# EAGLE library part 251715-SOCK (library crasbe)
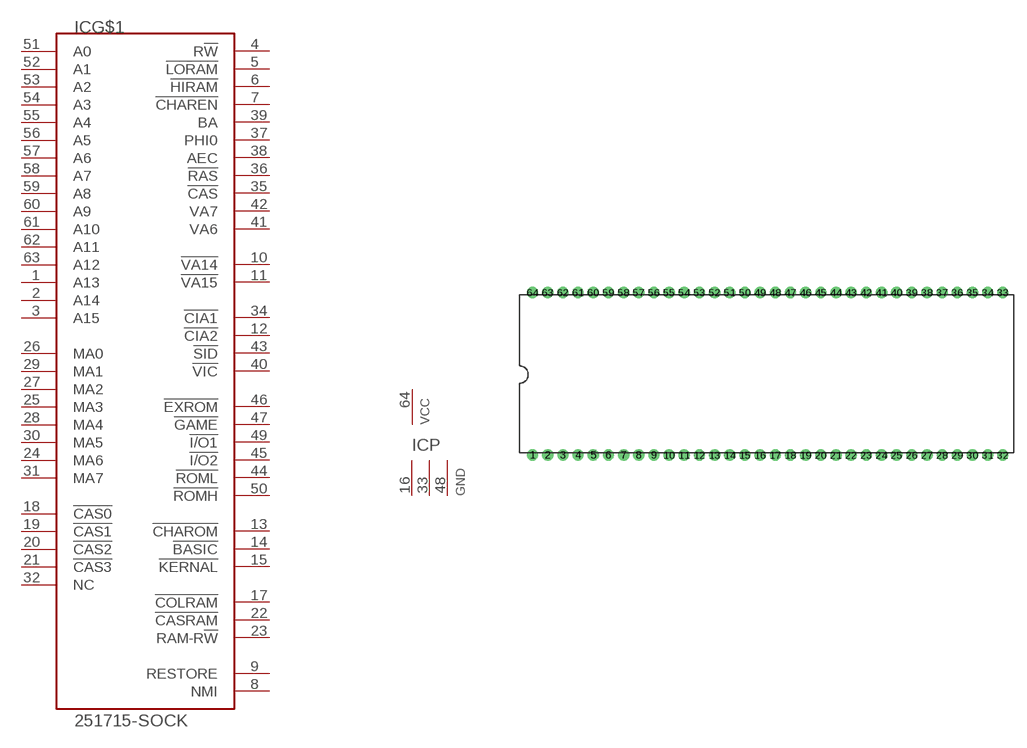
[diagram p52: symbol with the pads of 64-SPDIP; footprint 64-SPDIP]

Designator prefix IC; gates G$1=251715-SOC P=VCC1GND3

## 251715-SOCK  [64-SPDIP]
1  G$1:A13  out
2  G$1:A14  out
3  G$1:A15  out
4  G$1:R!W  out
5  G$1:!LORAM  out
6  G$1:!HIRAM  out
7  G$1:!CHAREN  out
8  G$1:NMI  in
9  G$1:RESTORE  out
10  G$1:!VA14  out
11  G$1:!VA15  out
12  G$1:!CIA2  in
13  G$1:!CHAROM  in
14  G$1:!BASIC  in
15  G$1:!KERNAL  in
16  P:GND  pwr
17  G$1:!COLRAM  out
18  G$1:!CAS0  nc
19  G$1:!CAS1  nc
20  G$1:!CAS2  nc
21  G$1:!CAS3  nc
22  G$1:!CASRAM  out
23  G$1:RAM-R!W  out
24  G$1:MA6
25  G$1:MA3
26  G$1:MA0
27  G$1:MA2
28  G$1:MA4
29  G$1:MA1
30  G$1:MA5
31  G$1:MA7
32  G$1:NC  nc
33  P:GND  pwr
34  G$1:!CIA1  in
35  G$1:!CAS  out
36  G$1:!RAS  out
37  G$1:PHI0  out
38  G$1:AEC  out
39  G$1:BA  out
40  G$1:!VIC  in
41  G$1:VA6  out
42  G$1:VA7  out
43  G$1:!SID  in
44  G$1:!ROML  in
45  G$1:!I/O2  in
46  G$1:!EXROM  out
47  G$1:!GAME  out
48  P:GND  pwr
49  G$1:!I/O1  in
50  G$1:!ROMH  in
51  G$1:A0  out
52  G$1:A1  out
53  G$1:A2  out
54  G$1:A3  out
55  G$1:A4  out
56  G$1:A5  out
57  G$1:A6  out
58  G$1:A7  out
59  G$1:A8  out
60  G$1:A9  out
61  G$1:A10  out
62  G$1:A11  out
63  G$1:A12  out
64  P:VCC  pwr

## Footprint 64-SPDIP (pad centres in mm)
Dual In Line
drill 0.813: 1 -28.956,-10.668; 2 -27.178,-10.668; 3 -25.4,-10.668; 4 -23.622,-10.668; 5 -21.844,-10.668; 6 -20.066,-10.668; 7 -18.288,-10.668; 8 -16.51,-10.668; 9 -14.732,-10.668; 10 -12.954,-10.668; 11 -11.176,-10.668; 12 -9.398,-10.668; 13 -7.62,-10.668; 14 -5.842,-10.668; 15 -4.064,-10.668; 16 -2.286,-10.668; 17 -0.508,-10.668; 18 1.27,-10.668; 19 3.048,-10.668; 20 4.826,-10.668; 21 6.604,-10.668; 22 8.382,-10.668; 23 10.16,-10.668; 24 11.938,-10.668; 25 13.716,-10.668; 26 15.494,-10.668; 27 17.272,-10.668; 28 19.05,-10.668; 29 20.828,-10.668; 30 22.606,-10.668; 31 24.384,-10.668; 32 26.162,-10.668; 33 26.162,8.382; 34 24.384,8.382; 35 22.606,8.382; 36 20.828,8.382; 37 19.05,8.382; 38 17.272,8.382; 39 15.494,8.382; 40 13.716,8.382; 41 11.938,8.382; 42 10.16,8.382; 43 8.382,8.382; 44 6.604,8.382; 45 4.826,8.382; 46 3.048,8.382; 47 1.27,8.382; 48 -0.508,8.382; 49 -2.286,8.382; 50 -4.064,8.382; 51 -5.842,8.382; 52 -7.62,8.382; 53 -9.398,8.382; 54 -11.176,8.382; 55 -12.954,8.382; 56 -14.732,8.382; 57 -16.51,8.382; 58 -18.288,8.382; 59 -20.066,8.382; 60 -21.844,8.382; 61 -23.622,8.382; 62 -25.4,8.382; 63 -27.178,8.382; 64 -28.956,8.382